# Altium footprint library PcbLib1.PcbLib: 12 footprints
Each footprint in its own frame and in the unit in brackets; x right, y up, seen from the top. Pads: shape width x height; smd on the part's side, far side on the other; paste and mask are expansions set on the pad; w line width, h text height; cw(c..) or ccw(c..) is an arc to the next point about the centre after c.
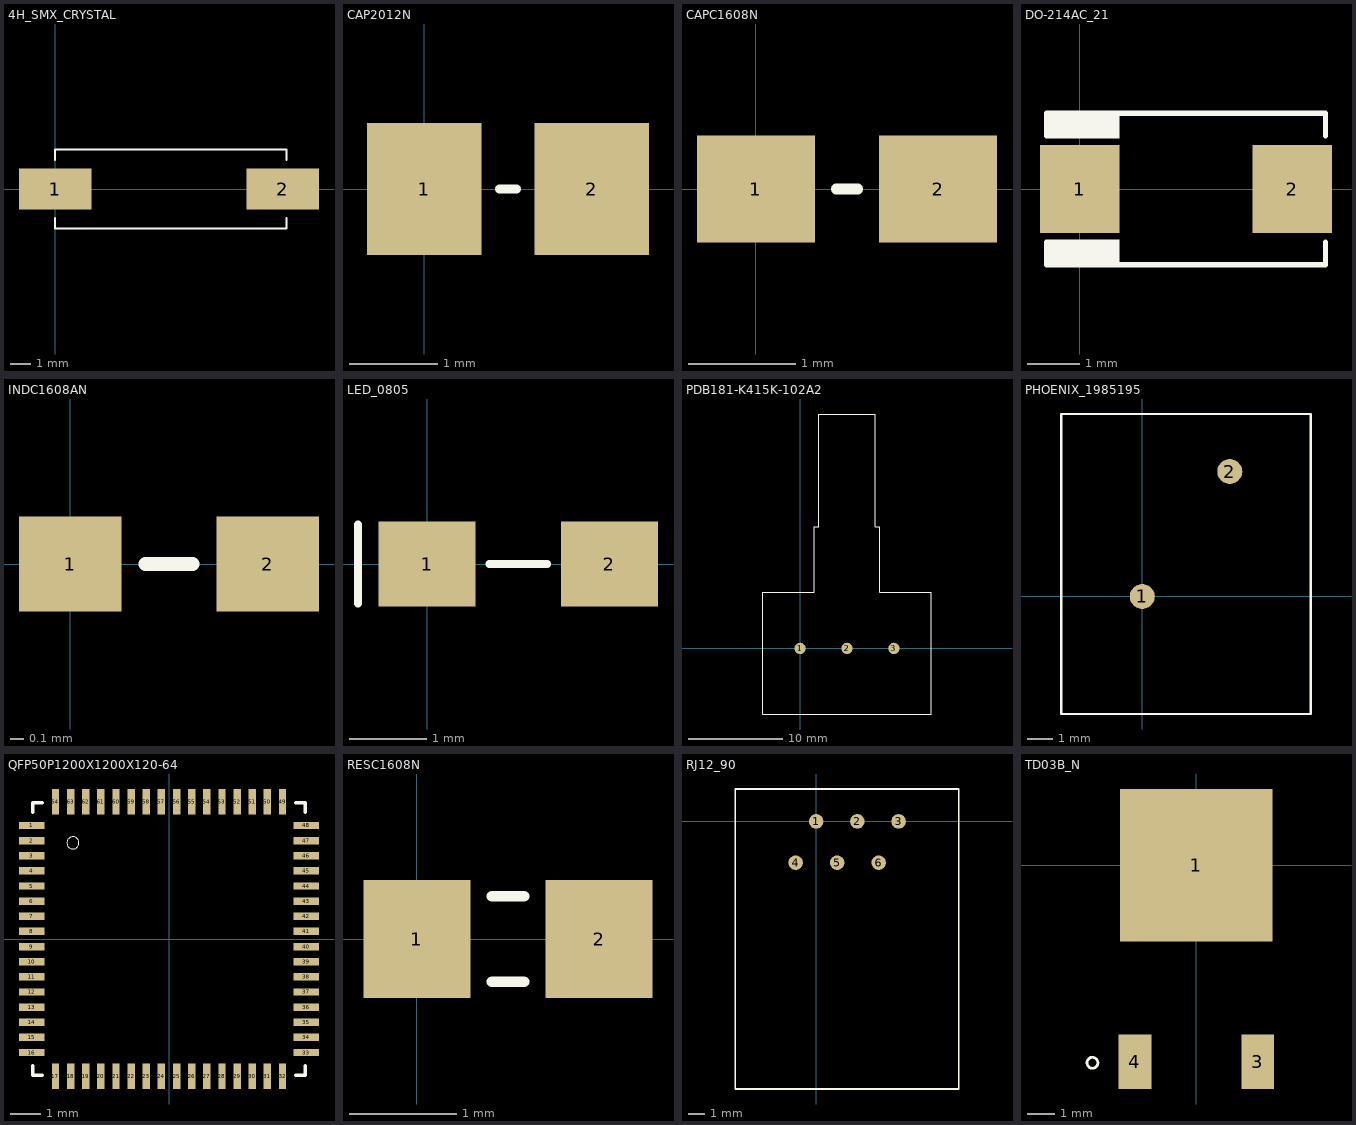
[diagram p0: the footprints below, top view; thin cyan lines are the x and y axes]

## 4H_SMX_CRYSTAL [mm]
pads (2):
  rect 3.5x2 smd: 1(0,0) 2(11,0)
Top Overlay:
  lines w0.1: 0,-1.397 0,-1.905 11.176,-1.905 11.176,-1.397 ; 0,1.397 0,1.905 11.176,1.905 11.176,1.397

## CAP2012N [mm]
pads (2):
  rect 1.3x1.5 smd: 1(0,0) 2(1.9,0)
Top Overlay:
  lines w0.1: 0.85,0 1.05,0

## CAPC1608N [mm]
pads (2):
  rect 1.1x1 smd: 1(0,0) 2(1.7,0)
Top Overlay:
  lines w0.1: 0.75,0 0.95,0

## DO-214AC_21 [mm]
pads (2):
  rect 1.52x1.68 smd: 1(0,0) 2(4.06,0)
Top Overlay:
  rectangle: -0.635,-1.45 0.762,-0.963
  rectangle: -0.635,0.963 0.762,1.45
  lines w0.1: -0.635,-1.016 -0.635,-1.45 4.699,-1.45 4.699,-1.016 ; -0.635,1.016 -0.635,1.45 4.699,1.45 4.699,1.016

## INDC1608AN [mm]
pads (2):
  rect 0.75x0.7 smd: 1(0,0) 2(1.45,0)
Top Overlay:
  lines w0.1: 0.55,0 0.9,0

## LED_0805 [mm]
pads (2):
  rect 1.25x1.1 smd: 1(0,0) 2(2.35,0)
Top Overlay:
  lines w0.1: -0.889,-0.508 -0.889,0.508 ; 0.8,0 1.55,0

## PDB181-K415K-102A2 [mm]
pads (3):
  round 1.2 all layers, no hole: 1(0,0) 2(5,0) 3(10,0)
Top Overlay:
  lines w0.1: -4,-7 -4,6 1.5,6 1.5,13 2,13 2,25 8,25 8,13 8.5,13 8.5,6 14,6 14,-7 -4,-7

## PHOENIX_1985195 [mm]
pads (2):
  round 1 all layers, no hole: 1(0,0) 2(3.5,5)
Top Overlay:
  lines w0.1: -3.25,-4.7 6.75,-4.7 6.75,7.3 -3.25,7.3 -3.25,-4.7

## QFP50P1200X1200X120-64 [mm]
pads (64):
  rect 0.84x0.245 smd: 1(-4.535,3.75) 2(-4.535,3.25) 3(-4.535,2.75) 4(-4.535,2.25) 5(-4.535,1.75) 6(-4.535,1.25) 7(-4.535,0.75) 8(-4.535,0.25) 9(-4.535,-0.25) 10(-4.535,-0.75) 11(-4.535,-1.25) 12(-4.535,-1.75) 13(-4.535,-2.25) 14(-4.535,-2.75) 15(-4.535,-3.25) 16(-4.535,-3.75) 33(4.535,-3.75) 34(4.535,-3.25) 35(4.535,-2.75) 36(4.535,-2.25) 37(4.535,-1.75) 38(4.535,-1.25) 39(4.535,-0.75) 40(4.535,-0.25) 41(4.535,0.25) 42(4.535,0.75) 43(4.535,1.25) 44(4.535,1.75) 45(4.535,2.25) 46(4.535,2.75) 47(4.535,3.25) 48(4.535,3.75)
  rect 0.245x0.84 smd: 17(-3.75,-4.535) 18(-3.25,-4.535) 19(-2.75,-4.535) 20(-2.25,-4.535) 21(-1.75,-4.535) 22(-1.25,-4.535) 23(-0.75,-4.535) 24(-0.25,-4.535) 25(0.25,-4.535) 26(0.75,-4.535) 27(1.25,-4.535) 28(1.75,-4.535) 29(2.25,-4.535) 30(2.75,-4.535) 31(3.25,-4.535) 32(3.75,-4.535) 49(3.75,4.535) 50(3.25,4.535) 51(2.75,4.535) 52(2.25,4.535) 53(1.75,4.535) 54(1.25,4.535) 55(0.75,4.535) 56(0.25,4.535) 57(-0.25,4.535) 58(-0.75,4.535) 59(-1.25,4.535) 60(-1.75,4.535) 61(-2.25,4.535) 62(-2.75,4.535) 63(-3.25,4.535) 64(-3.75,4.535)
Top Overlay:
  circle w0: c-3.175,3.175 r0.2
  lines w0.127: -4.5,-4.2 -4.5,-4.5 -4.2,-4.5 ; -4.5,4.2 -4.5,4.5 -4.2,4.5 ; 4.2,-4.5 4.5,-4.5 4.5,-4.2 ; 4.2,4.5 4.5,4.5 4.5,4.2

## RESC1608N [mm]
pads (2):
  rect 1x1.1 smd: 1(0,0) 2(1.7,0)
Top Overlay:
  lines w0.1: 0.7,-0.4 1,-0.4 ; 0.7,0.4 1,0.4

## RJ12_90 [mm]
pads (6):
  round 0.9 all layers, no hole: 1(0,0) 2(2.54,0) 3(5.08,0) 4(-1.27,-2.54) 5(1.29,-2.54) 6(3.85,-2.54)
Top Overlay:
  lines w0.1: -5,-16.5 8.8,-16.5 8.8,2 -5,2 -5,-16.5
Multi-Layer:
  circle w0.254: c6.98,-8.9 r1.625
  circle w0.254: c-3.18,-8.9 r1.625

## TD03B_N [mm]
pads (3):
  rect 5.6x5.6 smd: 1(0,0)
  rect 1.2x2 smd: 3(2.25,-7.2) 4(-2.25,-7.2)
Top Overlay:
  circle w0.1: c-3.81,-7.239 r0.2